# EAGLE library part BUTTONPAD_SINGLE/3 (library Electromechanical)
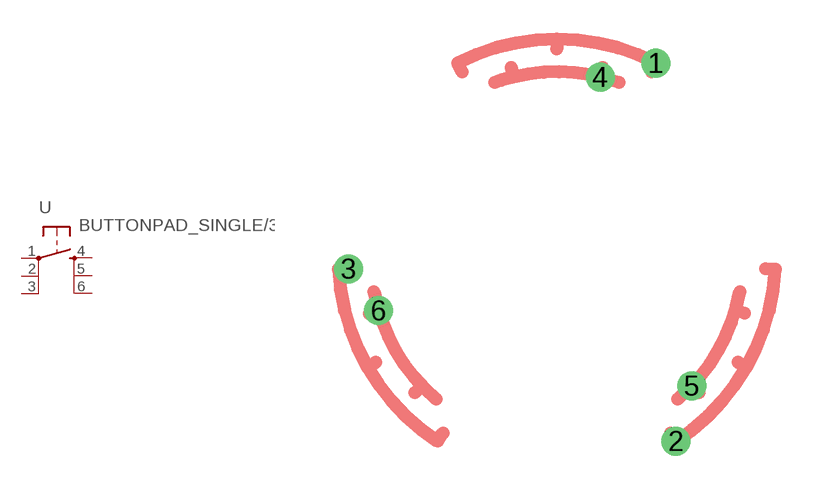
[diagram p2: symbol with the pads of TACTILE/3; footprint TACTILE/3]

Designator prefix -

## BUTTONPAD_SINGLE/3  [TACTILE/3]
1  P  pas
2  P1  pas
3  P2  pas
4  S  pas
5  S1  pas
6  S2  pas

## Footprint TACTILE/3 (pad centres in mm)
drill 0.6: 1 3.79,7.46; 2 4.56,-7.02; 3 -7.98,-0.42; 4 1.66,6.923; 5 5.16,-4.9; 6 -6.83,-2.02